# EAGLE library part HEADER_2.54MM_1X6 (library CattleFit)
Header, 2.54mm pitch, 1x6
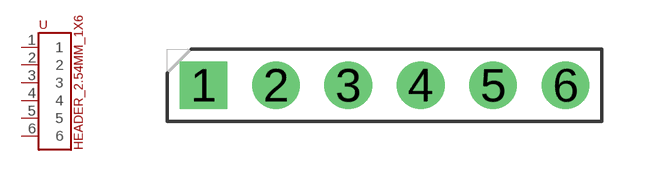
[diagram p2: symbol with the pads of HEADER_2.54MM_1X6; footprint HEADER_2.54MM_1X6]

Designator prefix -

## HEADER_2.54MM_1X6  [HEADER_2.54MM_1X6]
1  1
2  2
3  3
4  4
5  5
6  6

## Footprint HEADER_2.54MM_1X6 (pad centres in mm)
Header, Vertical Shrouded, 2.54 mm pitch; 0.64 mm lead width, 6 pins, 1 row, 6 pins per row, 15.24 mm L X 2.54 mm W X 8.68 mm H body PCB Libraries Packages
drill 1.11 pad 1.67 square: 1 0,0
drill 1.11 pad 1.67: 2 2.54,0; 3 5.08,0; 4 7.62,0; 5 10.16,0; 6 12.7,0